# Altium schematic symbol library STM32F4DISCOHEAD2.SchLib: 1 symbol
Pins are listed as number, name and electrical type; pins without a type are passive.

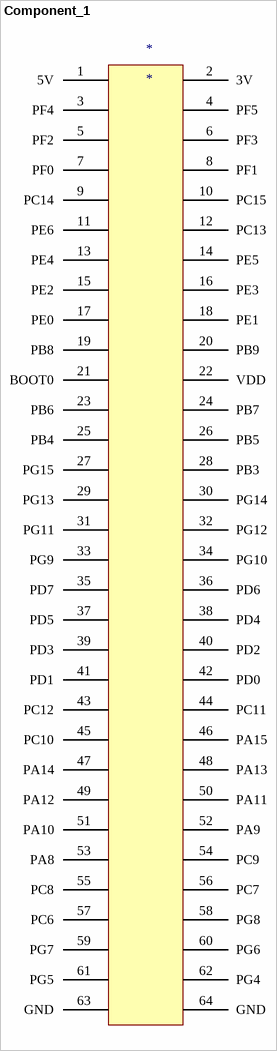
[diagram p0: symbol Component_1]

## Component_1
designator *
footprint STM32F4DiscoHeader
pins: 1 5V (power), 2 3V (power), 3 PF4, 4 PF5, 5 PF2, 6 PF3, 7 PF0, 8 PF1, 9 PC14, 10 PC15, 11 PE6, 12 PC13, 13 PE4, 14 PE5, 15 PE2, 16 PE3, 17 PE0, 18 PE1, 19 PB8, 20 PB9, 21 BOOT0, 22 VDD (power), 23 PB6, 24 PB7, 25 PB4, 26 PB5, 27 PG15, 28 PB3, 29 PG13, 30 PG14, 31 PG11, 32 PG12, 33 PG9, 34 PG10, 35 PD7, 36 PD6, 37 PD5, 38 PD4, 39 PD3, 40 PD2, 41 PD1, 42 PD0, 43 PC12, 44 PC11, 45 PC10, 46 PA15, 47 PA14, 48 PA13, 49 PA12, 50 PA11, 51 PA10, 52 PA9, 53 PA8, 54 PC9, 55 PC8, 56 PC7, 57 PC6, 58 PG8, 59 PG7, 60 PG6, 61 PG5, 62 PG4, 63 GND (power), 64 GND (power)